# Altium footprint library 1101M2S3CQE2.PcbLib: 2 footprints
Each footprint in its own frame and in the unit in brackets; x right, y up, seen from the top. Pads: shape width x height; smd on the part's side, far side on the other; paste and mask are expansions set on the pad; w line width, h text height; cw(c..) or ccw(c..) is an arc to the next point about the centre after c.
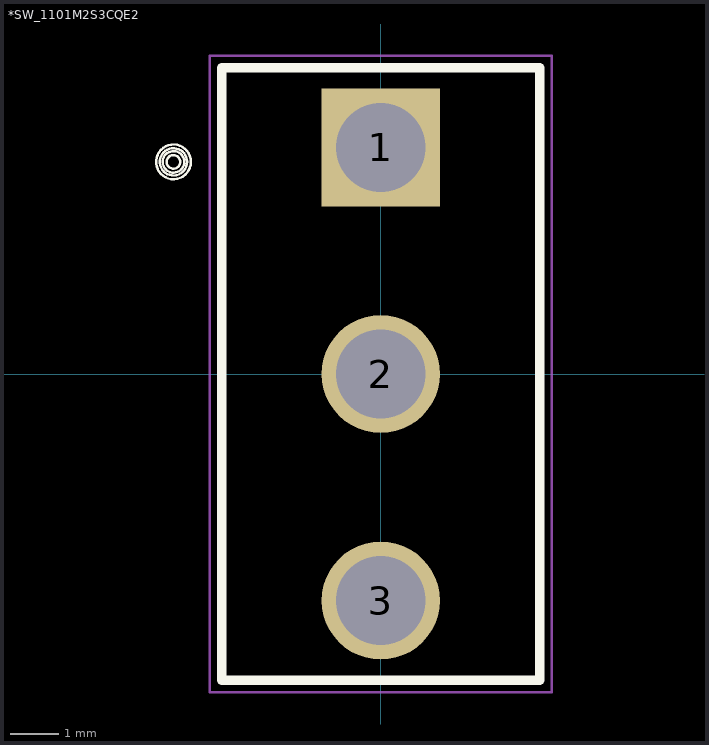
[diagram p0: the footprints below, top view; thin cyan lines are the x and y axes]

## *SW_1101M2S3CQE2 [mm]
pads (3):
  rect 2.45x2.45 hole 1.85: 1(0,4.7)
  round 2.45 hole 1.85: 2(0,0) 3(0,-4.7)
Top Overlay:
  circle w0.05: c-4.3,4.4 r0.224
  circle w0.05: c-4.3,4.4 r0.224
  circle w0.05: c-4.3,4.4 r0.141
  circle w0.05: c-4.3,4.4 r0.224
  circle w0.05: c-4.3,4.4 r0.283
  circle w0.05: c-4.3,4.4 r0.361
  lines w0.2: -3.3,-6.35 -3.3,6.35 3.3,6.35 3.3,-6.35 -3.3,-6.35
Mechanical 15:
  lines w0.05: -3.55,-6.6 -3.55,6.6 3.55,6.6 3.55,-6.6 -3.55,-6.6

## PCBComponent_1 [mm]